# Altium schematic symbol library GCM32ER71C226ME19L.SchLib: 1 symbol
Pins are listed as number, name and electrical type; pins without a type are passive.

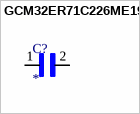
[diagram p0: symbol GCM32ER71C226ME19L]

## GCM32ER71C226ME19L
designator C?
SMD Capacitor X7R(EIA) with Capacitance: 22uF Tol. 20%. Rated Voltage: 16Vdc; MP: GCM32ER71C226ME19L; MF: Murata; SnapEDA_Link: https://www.snapeda.com/parts/GCM32ER71C226ME19L/Murata/view-part/1797006/?ref=snap; Availability: Good; Check_prices: https://www.snapeda.com/parts/GCM32ER71C226ME19L/Murata/view-part/1797006/?ref=eda; Package: 3225 Murata; Price: None; Purchase-URL: https://pricing.snapeda.com/search/part/GCM32ER71C226ME19L/?ref=eda; Value: *
footprint CAPC3225X270N
pins: 1, 2